# EAGLE library part 61300615721 (library Wuerth_Elektronik_eiCan_Pin_&_Socked_Headers_v1.3)
WR-PHD 2.54mm Socket Header Bottom Entry, 6 Pins
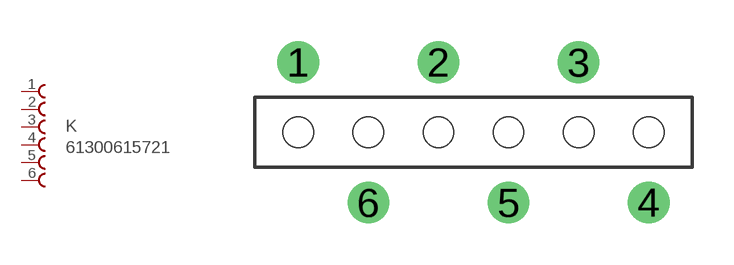
[diagram p186: symbol with the pads of 61300615721; footprint 61300615721]

Designator prefix K

## 61300615721  [61300615721]
1  1  pas
2  2  pas
3  3  pas
4  4  pas
5  5  pas
6  6  pas

## Footprint 61300615721 (pad centres in mm)
WR-PHD 2.54mm Socket Header Bottom Entry, 6 Pins
drill 1 round: 1 -6.35,2.54; 2 -1.27,2.54; 3 3.81,2.54; 4 6.35,-2.54; 5 1.27,-2.54; 6 -3.81,-2.54
hole 1.1 at -6.35,0
hole 1.1 at -3.81,0
hole 1.1 at -1.27,0
hole 1.1 at 1.27,0
hole 1.1 at 3.81,0
hole 1.1 at 6.35,0